# Altium footprint library E220.PcbLib: 10 footprints
Each footprint in its own frame and in the unit in brackets; x right, y up, seen from the top. Pads: shape width x height; smd on the part's side, far side on the other; paste and mask are expansions set on the pad; w line width, h text height; cw(c..) or ccw(c..) is an arc to the next point about the centre after c.
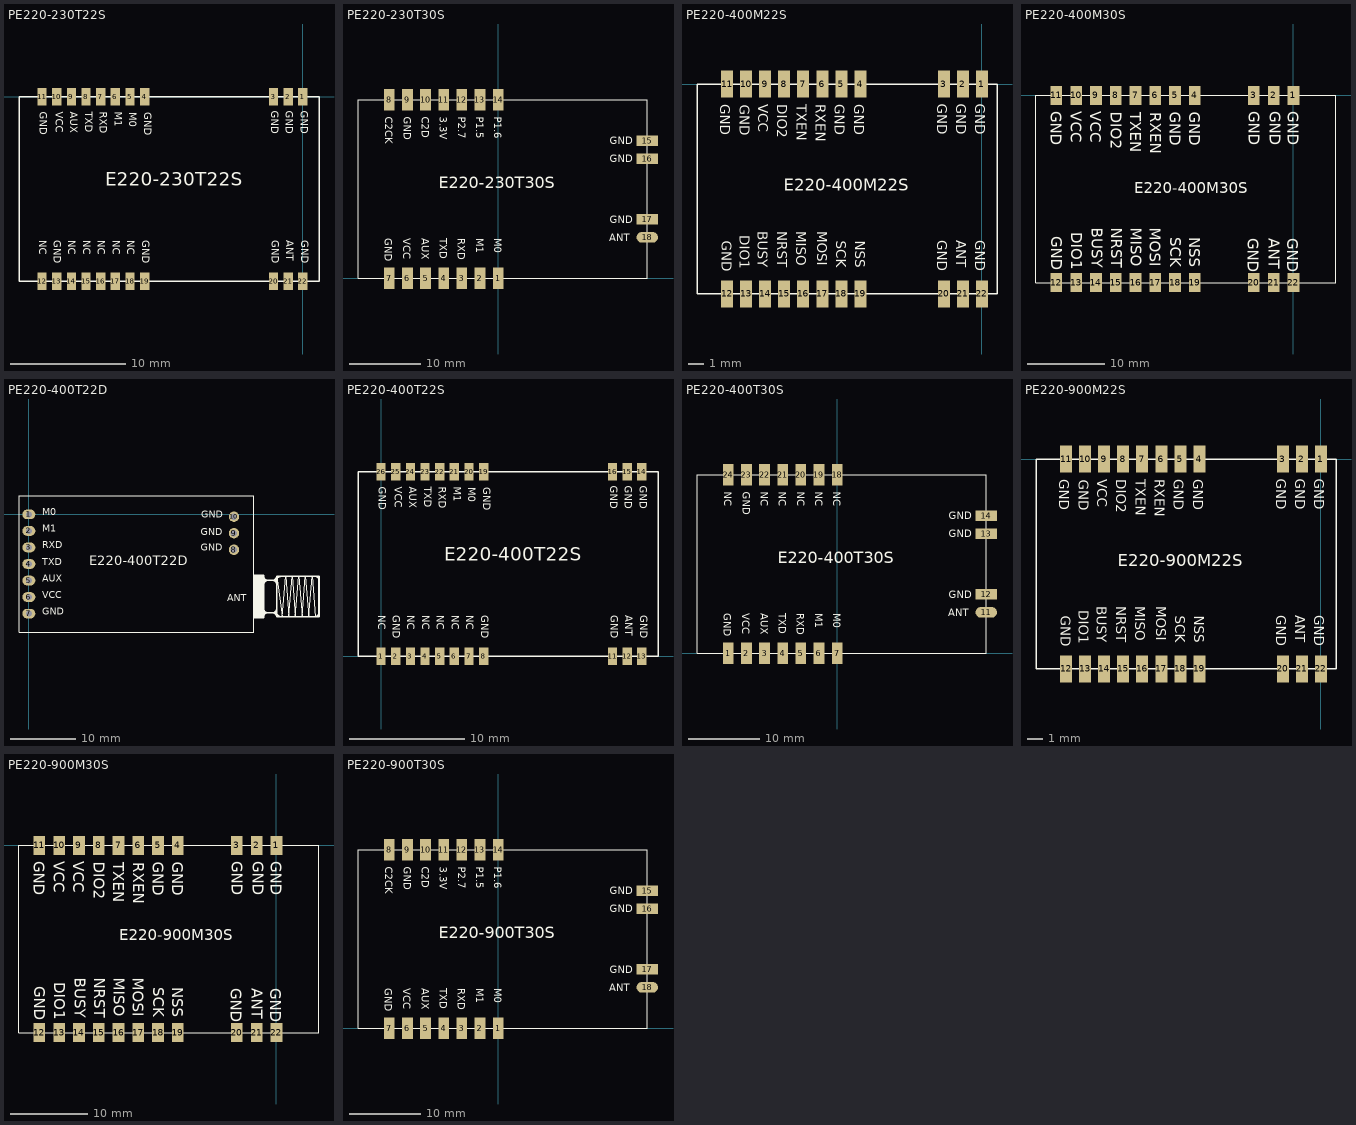
[diagram p0: the footprints below, top view; thin cyan lines are the x and y axes]

## PE220-230T22S [mm] "26mm**16mm*3.23mm-S"
pads (22):
  rect 0.8x1.5 smd: 1(0,0) 2(-1.27,0) 3(-2.54,0) 4(-13.71,0) 5(-14.98,0) 6(-16.25,0) 7(-17.52,0) 8(-18.79,0) 9(-20.06,0) 10(-21.33,0) 11(-22.6,0) 12(-22.6,-16) 13(-21.33,-16) 14(-20.06,-16) 15(-18.79,-16) 16(-17.52,-16) 17(-16.25,-16) 18(-14.98,-16) 19(-13.71,-16) 20(-2.54,-16) 21(-1.27,-16) 22(0,-16)
Top Overlay:
  lines w0.127: -24.6,-16 1.4,-16 1.4,0 -24.6,0 -24.6,-16
  text "GND" at -1.687,-1.224 h1.1
  text "GND" at -2.966,-1.224 h1.1
  text "GND" at -2.916,-12.441 h1.1
  text "ANT" at -1.637,-12.441 h1.1
  text "GND" at -0.358,-12.441 h1.1
  text "GND" at -14.138,-12.441 h1.1
  text "NC" at -15.417,-12.441 h1.1
  text "NC" at -16.696,-12.441 h1.1
  text "NC" at -17.974,-12.441 h1.1
  text "NC" at -19.253,-12.441 h1.1
  text "NC" at -20.532,-12.441 h1.1
  text "GND" at -21.811,-12.441 h1.1
  text "NC" at -23.06,-12.441 h1.1
  text "GND" at -13.97,-1.351 h1.1
  text "GND" at -23.01,-1.301 h1.1
  text "VCC" at -21.651,-1.301 h1.1
  text "AUX" at -20.372,-1.301 h1.1
  text "TXD" at -19.093,-1.301 h1.1
  text "RXD" at -17.814,-1.301 h1.1
  text "M1" at -16.536,-1.301 h1.1
  text "M0" at -15.257,-1.351 h1.1
  text "E220-230T22S" at -17.107,-8.126 h2
  text "GND" at -0.408,-1.224 h1.1

## PE220-230T30S [mm] "40.5mm*25mm*3.80mm-S"
pads (18):
  rect 1.5x3 smd: 1(0,0) 2(-2.54,0) 3(-5.08,0) 4(-7.62,0) 5(-10.16,0) 6(-12.7,0) 7(-15.24,0) 8(-15.24,25) 9(-12.7,25) 10(-10.16,25) 11(-7.62,25) 12(-5.08,25) 13(-2.54,25) 14(0,25)
  rect 3x1.5 smd: 15(20.88,19.27) 16(20.88,16.73) 17(20.88,8.27)
  oval 3x1.5 smd: 18(20.88,5.73)
Top Overlay:
  lines w0.127: -19.62,0 20.88,0 20.88,25 -19.62,25 -19.62,0
  text "C2D" at -10.73,22.606 h1
  text "GND" at 15.602,18.73 h1
  text "GND" at 15.602,16.22 h1
  text "P1.6" at -0.557,22.592 h1
  text "P1.5" at -3.067,22.592 h1
  text "P2.7" at -5.617,22.592 h1
  text "3.3V" at -8.147,22.592 h1
  text "GND" at -13.237,22.592 h1
  text "C2CK" at -15.827,22.592 h1
  text "GND" at -15.847,5.575 h1
  text "VCC" at -13.257,5.575 h1
  text "AUX" at -10.707,5.575 h1
  text "TXD" at -8.167,5.575 h1
  text "RXD" at -5.637,5.575 h1
  text "M1" at -3.087,5.575 h1
  text "M0" at -0.577,5.575 h1
  text "ANT" at 15.554,5.17 h1
  text "GND" at 15.602,7.72 h1
  text "E220-230T30S" at -8.317,12.065 h2.8

## PE220-400M22S [mm] "20mm*14mm*2.8mm-S"
pads (22):
  rect 0.8x1.8 smd: 1(0,0) 2(-1.27,0) 3(-2.54,0) 4(-8.11,0) 5(-9.38,0) 6(-10.65,0) 7(-11.92,0) 8(-13.19,0) 9(-14.46,0) 10(-15.73,0) 11(-17,0) 12(-17,-14) 13(-15.73,-14) 14(-14.46,-14) 15(-13.19,-14) 16(-11.92,-14) 17(-10.65,-14) 18(-9.38,-14) 19(-8.11,-14) 20(-2.54,-14) 21(-1.27,-14) 22(0,-14)
Top Overlay:
  lines w0.1: -19,-14 -19,0 1,0 1,-14 -19,-14
  text "GND" at -8.528,-1.353 h0.65
  text "GND" at -9.807,-1.353 h0.65
  text "RXEN" at -11.086,-1.353 h0.65
  text "TXEN" at -12.364,-1.353 h0.65
  text "DIO2" at -13.643,-1.353 h0.65
  text "VCC" at -14.922,-1.353 h0.65
  text "GND" at -16.14,-1.373 h0.65
  text "GND" at -17.45,-1.353 h0.65
  text "GND" at -2.996,-1.323 h0.65
  text "GND" at -1.717,-1.323 h0.65
  text "GND" at -0.438,-1.323 h0.65
  text "GND" at -0.438,-10.428 h0.65
  text "ANT" at -1.717,-10.428 h0.65
  text "GND" at -2.996,-10.428 h0.65
  text "GND" at -17.349,-10.444 h0.65
  text "DIO1" at -16.14,-10.097 h0.65
  text "BUSY" at -14.936,-9.809 h0.65
  text "NRST" at -13.666,-9.809 h0.65
  text "MISO" at -12.396,-9.809 h0.65
  text "MOSI" at -10.999,-9.809 h0.65
  text "SCK" at -9.729,-10.444 h0.65
  text "NSS" at -8.459,-10.444 h0.65
  text "E220-400M22S" at -13.208,-7.112 h0.8

## PE220-400M30S [mm] "38.5mm*24mm*3.8mm-S"
pads (22):
  rect 1.5x2.5 smd: 1(0,0) 2(-2.54,0) 3(-5.08,0) 4(-12.65,0) 5(-15.19,0) 6(-17.73,0) 7(-20.27,0) 8(-22.81,0) 9(-25.35,0) 10(-27.89,0) 11(-30.43,0) 12(-30.43,-24) 13(-27.89,-24) 14(-25.35,-24) 15(-22.81,-24) 16(-20.27,-24) 17(-17.73,-24) 18(-15.19,-24) 19(-12.65,-24) 20(-5.08,-24) 21(-2.54,-24) 22(0,-24)
Top Overlay:
  lines w0.1: -33.04,-24 -33.04,0 5.46,0 5.46,-24 -33.04,-24
  text "NSS" at -13.351,-18.17 h1.4
  text "SCK" at -15.816,-18.17 h1.4
  text "MOSI" at -18.416,-16.979 h1.4
  text "MISO" at -20.881,-16.979 h1.4
  text "NRST" at -23.406,-16.979 h1.4
  text "BUSY" at -25.871,-16.979 h1.4
  text "DIO1" at -28.532,-17.552 h1.4
  text "GND" at -31.079,-18.064 h1.4
  text "GND" at -5.844,-18.291 h1.4
  text "ANT" at -3.202,-18.291 h1.4
  text "GND" at -0.775,-18.291 h1.4
  text "GND" at -0.748,-1.991 h1.4
  text "GND" at -3.07,-1.991 h1.4
  text "GND" at -5.743,-1.991 h1.4
  text "GND" at -31.143,-2.051 h1.4
  text "VCC" at -28.61,-2.051 h1.4
  text "VCC" at -26.076,-2.051 h1.4
  text "DIO2" at -23.438,-2.117 h1.4
  text "TXEN" at -20.935,-2.169 h1.4
  text "RXEN" at -18.402,-2.169 h1.4
  text "GND" at -15.899,-2.096 h1.4
  text "GND" at -13.366,-2.096 h1.4
  text "E220-400M30S" at -20.447,-12.573 h1.4

## PE220-400T22D [mm] "36mm*21mm-D/SMA长度12.5mm"
pads (10):
  oval 2x1.5 hole 0.9: 1(0,0) 2(0,-2.54) 3(0,-5.08) 4(0,-7.62) 5(0,-10.16) 6(0,-12.7) 7(0,-15.24)
  round 1.6 hole 1: 8(31.49,-5.43) 9(31.49,-2.89) 10(31.49,-0.35)
Top Overlay:
  rectangle: 34.54,-15.865 36.04,-9.365
  rectangle: 34.54,-15.87 36.04,-9.37
  lines w0.1: 38.89,-15.72 38.04,-9.52 38.89,-15.72 ; 38.89,-15.72 39.41,-9.52 ; 38.89,-15.72 39.41,-9.52 ; 39.41,-9.52 39.92,-15.72 ; 39.41,-9.52 39.92,-15.72 ; 39.92,-15.72 40.43,-9.52 ; 39.92,-15.72 40.43,-9.52 ; 40.43,-9.52 40.91,-15.72 ; 40.43,-9.52 40.91,-15.72 ; 40.91,-15.72 41.43,-9.52 ; 40.91,-15.72 41.43,-9.52 ; 41.43,-9.52 41.94,-15.72 ; 41.43,-9.52 41.94,-15.72 ; 41.94,-15.72 42.43,-9.52 ; 41.94,-15.72 42.43,-9.52 ; 42.43,-9.52 42.95,-15.72 ; 42.43,-9.52 42.95,-15.72 ; 42.95,-15.72 43.47,-9.52 ; 42.95,-15.72 43.47,-9.52 ; 43.47,-9.52 43.98,-15.72 43.47,-9.52 ; -1.51,-18.12 -1.51,2.88 34.558,2.88 34.558,-18.12 -1.51,-18.12
  lines w0.254: 34.54,-15.87 34.54,-9.37 ; 34.54,-15.87 36.04,-15.87 ; 34.54,-15.87 34.54,-9.37 ; 34.54,-15.87 36.04,-15.87 ; 34.54,-9.37 36.04,-9.37 ; 34.54,-9.37 36.04,-9.37 ; 36.04,-15.87 36.04,-9.37 ; 36.04,-15.87 36.04,-9.37 ; 36.04,-14.47 ccw(c36.69,-14.47) 36.69,-15.12 ; 36.04,-14.47 ccw(c36.69,-14.47) 36.69,-15.12 ; 36.04,-14.47 36.04,-14.1 36.04,-14.47 ; 36.04,-10.82 cw(c36.74,-10.82) 36.74,-10.12 ; 36.04,-10.82 cw(c36.74,-10.82) 36.74,-10.12 ; 36.04,-10.82 36.04,-11.74 36.04,-10.82 ; 36.04,-9.49 ccw(c36.67,-9.49) 36.67,-10.12 ; 36.04,-9.49 ccw(c36.67,-9.49) 36.67,-10.12 ; 36.04,-9.49 36.04,-9.37 ; 36.04,-9.49 36.04,-9.37 ; 36.59,-15.12 ccw(c36.59,-15.67) 36.04,-15.67 cw(c36.59,-15.67) 36.59,-15.12 ; 36.59,-15.12 37.44,-15.12 ; 36.59,-15.12 37.44,-15.12 ; 36.67,-10.12 37.44,-10.12 ; 36.67,-10.12 37.44,-10.12 ; 36.69,-15.12 37.41,-15.12 ; 36.69,-15.12 37.41,-15.12 ; 36.74,-10.12 37.44,-10.12 ; 36.74,-10.12 37.44,-10.12 ; 37.41,-15.12 ccw(c37.41,-14.49) 38.04,-14.49 cw(c37.41,-14.49) 37.41,-15.12 ; 37.44,-15.12 cw(c37.44,-15.72) 38.04,-15.72 ; 37.44,-15.12 cw(c37.44,-15.72) 38.04,-15.72 ; 37.44,-10.12 ccw(c37.44,-9.52) 38.04,-9.52 ; 37.44,-10.12 cw(c37.44,-10.72) 38.04,-10.72 ccw(c37.44,-10.72) 37.44,-10.12 ; 37.44,-10.12 ccw(c37.44,-9.52) 38.04,-9.52 ; 38.04,-15.72 44.54,-15.72 ; 38.04,-15.72 38.04,-9.52 ; 38.04,-15.72 44.54,-15.72 ; 38.04,-15.72 38.04,-9.52 ; 38.04,-9.52 44.54,-9.52 ; 38.04,-9.52 44.54,-9.52 ; 38.72,-15.72 cw(c38.72,-15.04) 38.04,-15.04 ccw(c38.72,-15.04) 38.72,-15.72 ; 38.72,-15.72 38.87,-15.72 38.72,-15.72 ; 43.92,-15.72 ccw(c43.92,-15.1) 44.54,-15.1 cw(c43.92,-15.1) 43.92,-15.72 ; 43.92,-15.72 43.69,-15.72 43.92,-15.72 ; 44,-9.52 cw(c44,-10.06) 44.54,-10.06 ccw(c44,-10.06) 44,-9.52 ; 44,-9.52 43.6,-9.52 44,-9.52 ; 44.54,-15.72 44.54,-9.52 ; 44.54,-15.72 44.54,-9.52 ; 35.87,-15.12 38.04,-15.12 35.87,-15.12 ; 36.04,-10.12 38.04,-10.12 36.04,-10.12 ; 38.04,-10.13 cw(c38.65,-10.13) 38.65,-9.52 ccw(c38.65,-10.13) 38.04,-10.13
  text "E220-400T22D" at 9.271,-8.382 h2.5
  text "GND" at 26.416,-5.969 h1.8
  text "GND" at 26.416,-3.556 h1.8
  text "GND" at 26.447,-0.921 h1.8
  text "ANT" at 30.48,-13.716 h1.8
  text "M0" at 2.063,-0.54 h1.8
  text "M1" at 2.063,-3.08 h1.8
  text "RXD" at 2.063,-5.62 h1.8
  text "TXD" at 2.063,-8.16 h1.8
  text "AUX" at 2.063,-10.7 h1.8
  text "VCC" at 2.063,-13.24 h1.8
  text "GND" at 2.063,-15.78 h1.8

## PE220-400T22S [mm] "26mm**16mm*3.23mm-S"
pads (22):
  rect 0.8x1.5 smd: 1(0,0) 2(1.27,0) 3(2.54,0) 4(3.81,0) 5(5.08,0) 6(6.35,0) 7(7.62,0) 8(8.89,0) 11(20.06,0) 12(21.33,0) 13(22.6,0) 14(22.6,16) 15(21.33,16) 16(20.06,16) 19(8.89,16) 20(7.62,16) 21(6.35,16) 22(5.08,16) 23(3.81,16) 24(2.54,16) 25(1.27,16) 26(0,16)
Top Overlay:
  lines w0.127: -2,0 24,0 24,16 -2,16 -2,0
  text "GND" at 20.913,14.776 h1.1
  text "GND" at 19.634,14.776 h1.1
  text "GND" at 19.684,3.559 h1.1
  text "ANT" at 20.963,3.559 h1.1
  text "GND" at 22.242,3.559 h1.1
  text "GND" at 8.462,3.559 h1.1
  text "NC" at 7.183,3.559 h1.1
  text "NC" at 5.904,3.559 h1.1
  text "NC" at 4.626,3.559 h1.1
  text "NC" at 3.347,3.559 h1.1
  text "NC" at 2.068,3.559 h1.1
  text "GND" at 0.789,3.559 h1.1
  text "NC" at -0.46,3.559 h1.1
  text "GND" at 8.63,14.649 h1.1
  text "GND" at -0.41,14.699 h1.1
  text "VCC" at 0.949,14.699 h1.1
  text "AUX" at 2.228,14.699 h1.1
  text "TXD" at 3.507,14.699 h1.1
  text "RXD" at 4.786,14.699 h1.1
  text "M1" at 6.064,14.699 h1.1
  text "M0" at 7.343,14.649 h1.1
  text "E220-400T22S" at 5.493,7.874 h2
  text "GND" at 22.192,14.776 h1.1

## PE220-400T30S [mm] "40.5mm*25mm*3.80mm-S"
pads (18):
  rect 1.5x3 smd: 1(-15.24,0) 2(-12.7,0) 3(-10.16,0) 4(-7.62,0) 5(-5.08,0) 6(-2.54,0) 7(0,0) 18(0,25) 19(-2.54,25) 20(-5.08,25) 21(-7.62,25) 22(-10.16,25) 23(-12.7,25) 24(-15.24,25)
  oval 3x1.5 smd: 11(20.88,5.73)
  rect 3x1.5 smd: 12(20.88,8.27) 13(20.88,16.73) 14(20.88,19.27)
Top Overlay:
  lines w0.127: -19.62,0 -19.62,25 20.88,25 20.88,0 -19.62,0
  text "E220-400T30S" at -8.317,12.065 h2.8
  text "GND" at 15.602,7.72 h1
  text "ANT" at 15.554,5.17 h1
  text "M0" at -0.577,5.575 h1
  text "M1" at -3.087,5.575 h1
  text "RXD" at -5.637,5.575 h1
  text "TXD" at -8.167,5.575 h1
  text "AUX" at -10.707,5.575 h1
  text "VCC" at -13.257,5.575 h1
  text "GND" at -15.847,5.575 h1
  text "NC" at -15.827,22.592 h1
  text "GND" at -13.237,22.592 h1
  text "NC" at -8.147,22.592 h1
  text "NC" at -5.617,22.592 h1
  text "NC" at -3.067,22.592 h1
  text "NC" at -0.557,22.592 h1
  text "GND" at 15.602,16.22 h1
  text "GND" at 15.602,18.73 h1
  text "NC" at -10.73,22.606 h1

## PE220-900M22S [mm] "20mm*14mm*2.8mm-S"
pads (22):
  rect 0.8x1.8 smd: 1(0,0) 2(-1.27,0) 3(-2.54,0) 4(-8.11,0) 5(-9.38,0) 6(-10.65,0) 7(-11.92,0) 8(-13.19,0) 9(-14.46,0) 10(-15.73,0) 11(-17,0) 12(-17,-14) 13(-15.73,-14) 14(-14.46,-14) 15(-13.19,-14) 16(-11.92,-14) 17(-10.65,-14) 18(-9.38,-14) 19(-8.11,-14) 20(-2.54,-14) 21(-1.27,-14) 22(0,-14)
Top Overlay:
  lines w0.1: -19,-14 1,-14 1,0 -19,0 -19,-14
  text "E220-900M22S" at -13.539,-7.142 h0.8
  text "NSS" at -8.459,-10.444 h0.65
  text "SCK" at -9.729,-10.444 h0.65
  text "MOSI" at -10.999,-9.809 h0.65
  text "MISO" at -12.396,-9.809 h0.65
  text "NRST" at -13.666,-9.809 h0.65
  text "BUSY" at -14.936,-9.809 h0.65
  text "DIO1" at -16.14,-10.097 h0.65
  text "GND" at -17.349,-10.444 h0.65
  text "GND" at -2.996,-10.428 h0.65
  text "ANT" at -1.717,-10.428 h0.65
  text "GND" at -0.438,-10.428 h0.65
  text "GND" at -0.438,-1.323 h0.65
  text "GND" at -1.717,-1.323 h0.65
  text "GND" at -2.996,-1.323 h0.65
  text "GND" at -17.45,-1.353 h0.65
  text "GND" at -16.14,-1.373 h0.65
  text "VCC" at -14.922,-1.353 h0.65
  text "DIO2" at -13.643,-1.353 h0.65
  text "TXEN" at -12.364,-1.353 h0.65
  text "RXEN" at -11.086,-1.353 h0.65
  text "GND" at -9.807,-1.353 h0.65
  text "GND" at -8.528,-1.353 h0.65

## PE220-900M30S [mm] "38.5mm*24mm*3.8mm-S"
pads (22):
  rect 1.5x2.5 smd: 1(0,0) 2(-2.54,0) 3(-5.08,0) 4(-12.65,0) 5(-15.19,0) 6(-17.73,0) 7(-20.27,0) 8(-22.81,0) 9(-25.35,0) 10(-27.89,0) 11(-30.43,0) 12(-30.43,-24) 13(-27.89,-24) 14(-25.35,-24) 15(-22.81,-24) 16(-20.27,-24) 17(-17.73,-24) 18(-15.19,-24) 19(-12.65,-24) 20(-5.08,-24) 21(-2.54,-24) 22(0,-24)
Top Overlay:
  lines w0.1: -33.04,-24 5.46,-24 5.46,0 -33.04,0 -33.04,-24
  text "E220-900M30S" at -20.193,-12.192 h1.4
  text "GND" at -13.366,-2.096 h1.4
  text "GND" at -15.899,-2.096 h1.4
  text "RXEN" at -18.402,-2.169 h1.4
  text "TXEN" at -20.935,-2.169 h1.4
  text "DIO2" at -23.438,-2.117 h1.4
  text "VCC" at -26.076,-2.051 h1.4
  text "VCC" at -28.61,-2.051 h1.4
  text "GND" at -31.143,-2.051 h1.4
  text "GND" at -5.743,-1.991 h1.4
  text "GND" at -3.07,-1.991 h1.4
  text "GND" at -0.748,-1.991 h1.4
  text "GND" at -0.775,-18.291 h1.4
  text "ANT" at -3.202,-18.291 h1.4
  text "GND" at -5.844,-18.291 h1.4
  text "GND" at -31.079,-18.064 h1.4
  text "DIO1" at -28.532,-17.552 h1.4
  text "BUSY" at -25.871,-16.979 h1.4
  text "NRST" at -23.406,-16.979 h1.4
  text "MISO" at -20.881,-16.979 h1.4
  text "MOSI" at -18.416,-16.979 h1.4
  text "SCK" at -15.816,-18.17 h1.4
  text "NSS" at -13.351,-18.17 h1.4

## PE220-900T30S [mm] "40.5mm*25mm*3.80mm-S"
pads (18):
  rect 1.5x3 smd: 1(0,0) 2(-2.54,0) 3(-5.08,0) 4(-7.62,0) 5(-10.16,0) 6(-12.7,0) 7(-15.24,0) 8(-15.24,25) 9(-12.7,25) 10(-10.16,25) 11(-7.62,25) 12(-5.08,25) 13(-2.54,25) 14(0,25)
  rect 3x1.5 smd: 15(20.88,19.27) 16(20.88,16.73) 17(20.88,8.27)
  oval 3x1.5 smd: 18(20.88,5.73)
Top Overlay:
  lines w0.127: -19.62,0 20.88,0 20.88,25 -19.62,25 -19.62,0
  text "C2D" at -10.73,22.606 h1
  text "GND" at 15.602,18.73 h1
  text "GND" at 15.602,16.22 h1
  text "P1.6" at -0.557,22.592 h1
  text "P1.5" at -3.067,22.592 h1
  text "P2.7" at -5.617,22.592 h1
  text "3.3V" at -8.147,22.592 h1
  text "GND" at -13.237,22.592 h1
  text "C2CK" at -15.827,22.592 h1
  text "GND" at -15.847,5.575 h1
  text "VCC" at -13.257,5.575 h1
  text "AUX" at -10.707,5.575 h1
  text "TXD" at -8.167,5.575 h1
  text "RXD" at -5.637,5.575 h1
  text "M1" at -3.087,5.575 h1
  text "M0" at -0.577,5.575 h1
  text "ANT" at 15.554,5.17 h1
  text "GND" at 15.602,7.72 h1
  text "E220-900T30S" at -8.317,12.065 h2.8